# Altium footprint library SOIC.PcbLib: 11 footprints
Each footprint in its own frame and in the unit in brackets; x right, y up, seen from the top. Pads: shape width x height; smd on the part's side, far side on the other; paste and mask are expansions set on the pad; w line width, h text height; cw(c..) or ccw(c..) is an arc to the next point about the centre after c.
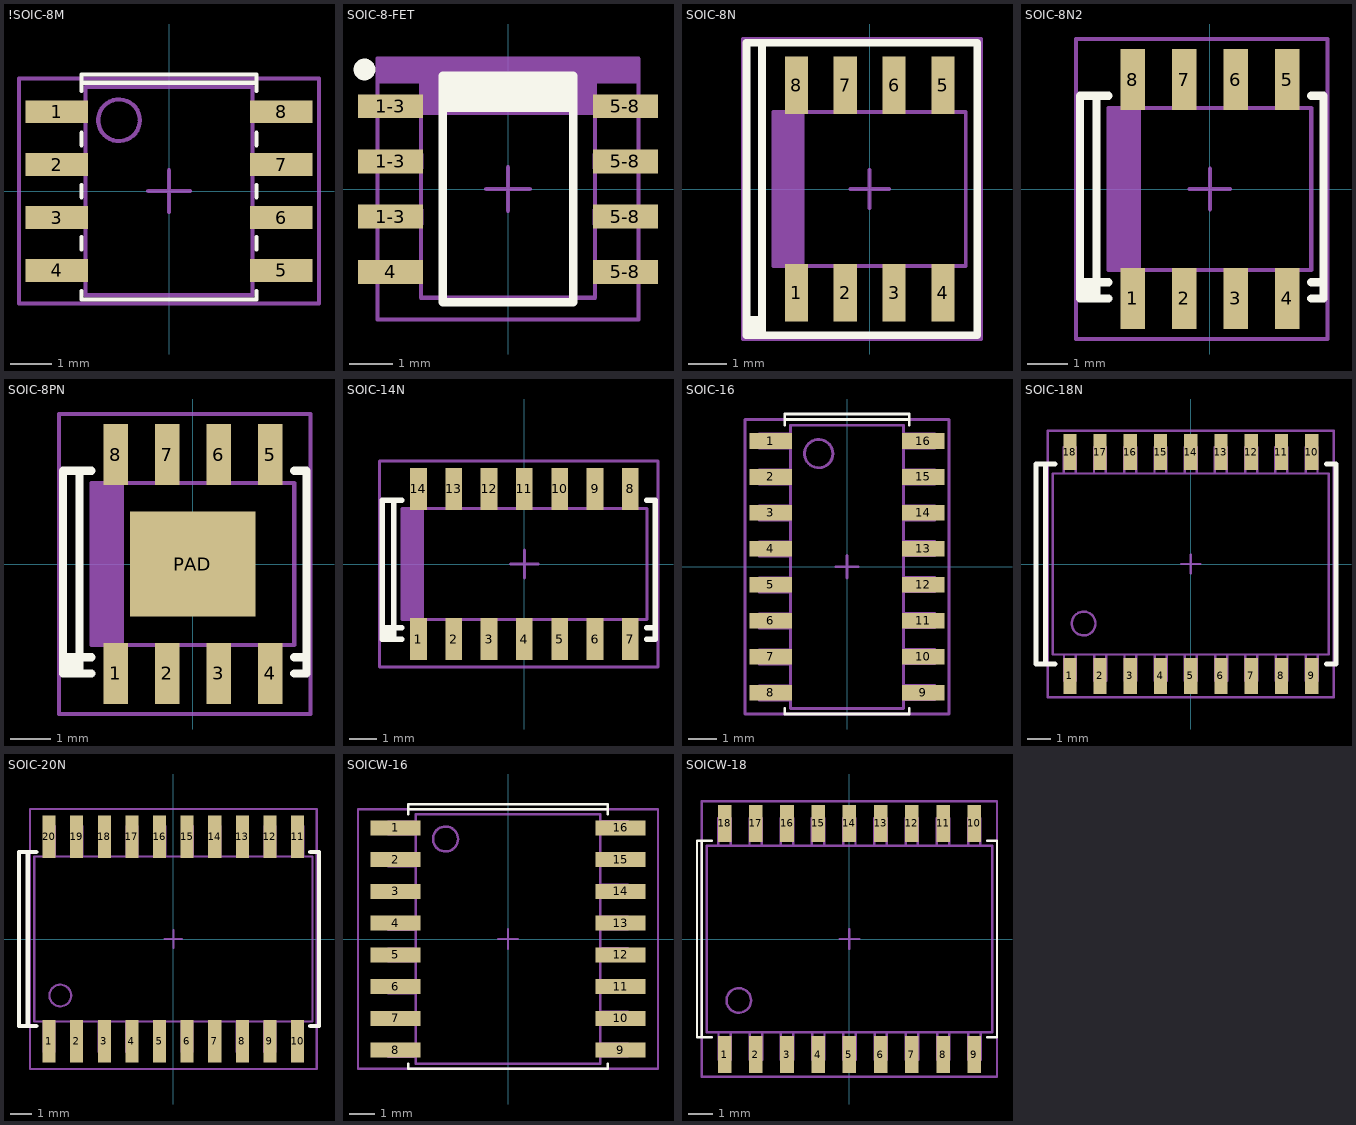
[diagram p0: the footprints below, top view; thin cyan lines are the x and y axes]

## !SOIC-8M [mm] "8-SOIC"
height 2
pads (8):
  rect 1.5x0.55 smd: 1(-2.7,1.905) 2(-2.7,0.635) 3(-2.7,-0.635) 4(-2.7,-1.905) 5(2.7,-1.905) 6(2.7,-0.635) 7(2.7,0.635) 8(2.7,1.905)
Top Overlay:
  lines w0.1: -2.1,-2.4 -2.1,-2.6 2.1,-2.6 2.1,-2.4 ; -2.1,-1.4 -2.1,-1.1 ; -2.1,-0.15 -2.1,0.15 ; -2.1,1.1 -2.1,1.4 ; -2.1,2.4 -2.1,2.8 2.1,2.8 2.1,2.4 ; -2.1,2.6 2.1,2.6 ; 2.1,-1.4 2.1,-1.1 ; 2.1,-0.15 2.1,0.15 ; 2.1,1.1 2.1,1.4
Top Package:
  circle w0.1: c-1.2,1.7 r0.5
  lines w0.1: -0.5,0 0.5,0 ; 0,-0.5 0,0.5 ; -3.002,-2.074 -2.002,-2.074 -2.002,-1.749 -3.002,-1.749 -3.002,-2.074 ; -3,1.75 -3,2.075 -2,2.075 -2,1.75 -3,1.75 ; -2.998,-0.804 -2.998,-0.479 -1.998,-0.479 -1.998,-0.804 -2.998,-0.804 ; -2.998,0.479 -1.998,0.479 -1.998,0.804 -2.998,0.804 -2.998,0.479 ; -2,-2.5 2,-2.5 2,2.5 -2,2.5 -2,-2.5 ; 1.998,-0.804 1.998,-0.479 2.998,-0.479 2.998,-0.804 1.998,-0.804 ; 1.998,0.479 2.998,0.479 2.998,0.804 1.998,0.804 1.998,0.479 ; 2,-2.075 3,-2.075 3,-1.75 2,-1.75 2,-2.075 ; 2,1.75 3,1.75 3,2.075 2,2.075 2,1.75
Top Comment:
  text ".Comment" at -0.636,2.835 h2
Top Designator:
  text ".Designator" at -0.568,4.299 h2.5
Top Border:
  lines w0.1: -0.5,0 0.5,0 ; 0,-0.5 0,0.5 ; -3.6,-2.7 3.6,-2.7 3.6,2.7 -3.6,2.7 -3.6,-2.7
3D body "User Library-SOIC-8-1.step": height 1.75, standoff 0, extent -3,-2.45 3,2.45

## SOIC-8-FET [mm]
height 1.75
pads (8):
  rect 1.5x0.55 smd: 1-3(-2.7,-0.635) 1-3(-2.7,0.635) 1-3(-2.7,1.905) 4(-2.7,-1.905) 5-8(2.7,-1.905) 5-8(2.7,-0.635) 5-8(2.7,0.635) 5-8(2.7,1.905)
Top Overlay:
  circle w0.25: c-3.3,2.75 r0.125
  rectangle: -1.5,1.775 1.5,2.6
  lines w0.2: -1.5,-2.6 -1.5,2.6 1.5,2.6 1.5,-2.6 -1.5,-2.6
Top Package:
  rectangle: -2,1.7 2,2.456
  lines w0.1: -0.5,0 0.5,0 ; 0,-0.5 0,0.5 ; -3.002,-2.074 -2.002,-2.074 -2.002,-1.749 -3.002,-1.749 -3.002,-2.074 ; -3,1.75 -3,2.075 -2,2.075 -2,1.75 -3,1.75 ; -2.998,-0.804 -2.998,-0.479 -1.998,-0.479 -1.998,-0.804 -2.998,-0.804 ; -2.998,0.479 -1.998,0.479 -1.998,0.804 -2.998,0.804 -2.998,0.479 ; -2,-2.5 2,-2.5 2,2.5 -2,2.5 -2,-2.5 ; 1.998,-0.804 1.998,-0.479 2.998,-0.479 2.998,-0.804 1.998,-0.804 ; 1.998,0.479 2.998,0.479 2.998,0.804 1.998,0.804 1.998,0.479 ; 2,-2.075 3,-2.075 3,-1.75 2,-1.75 2,-2.075 ; 2,1.75 3,1.75 3,2.075 2,2.075 2,1.75
Top Border:
  rectangle: -3,2.425 3,2.997
  lines w0.1: -3,3.003 -3,-3 3,-3 3,2.32 3,3 -2.997,3 ; -0.5,0 0.5,0 ; 0,-0.5 0,0.5
3D body "User Library-SOIC-8-1.step": height 1.75, standoff 0, extent -3.002,-2.449 2.998,2.451

## SOIC-8N [mm]
height 1.75
pads (8):
  rect 0.6x1.5 smd: 1(-1.905,-2.7) 2(-0.635,-2.7) 3(0.635,-2.7) 4(1.905,-2.7) 5(1.905,2.7) 6(0.635,2.7) 7(-0.635,2.7) 8(-1.905,2.7)
Top Overlay:
  rectangle: -3.2,-3.8 -2.8,-3.4
  lines w0.2: -3.2,-3.8 -3.2,3.8 -2.8,3.8 ; -3.2,-3.8 -3.2,-3.4 -2.8,-3.4 -2.8,-3.8 ; -3.2,-3.8 -2.8,-3.8 ; -2.8,-3.8 2.8,-3.8 2.8,3.8 -2.8,3.8 ; -2.8,-3.8 -2.8,3.8
Top Package:
  region: -1.7,-2 -1.7,2 -2.456,2 -2.456,-2
  lines w0.1: -2.5,-2 2.5,-2 2.5,2 -2.5,2 -2.5,-2 ; -2.075,-3 -2.075,-2 -1.75,-2 -1.75,-3 -2.075,-3 ; -2.075,2 -1.75,2 -1.75,3 -2.075,3 -2.075,2 ; -0.804,-2.998 -0.479,-2.998 -0.479,-1.998 -0.804,-1.998 -0.804,-2.998 ; -0.804,1.998 -0.479,1.998 -0.479,2.998 -0.804,2.998 -0.804,1.998 ; 0.479,-2.998 0.479,-1.998 0.804,-1.998 0.804,-2.998 0.479,-2.998 ; 0.479,1.998 0.479,2.998 0.804,2.998 0.804,1.998 0.479,1.998 ; 1.749,-3.002 2.074,-3.002 2.074,-2.002 1.749,-2.002 1.749,-3.002 ; 1.75,2 2.075,2 2.075,3 1.75,3 1.75,2
Top Border:
  lines w0.1: -0.5,0 0.5,0 ; 0,-0.5 0,0.5 ; -3.3,-3.9 2.9,-3.9 2.9,3.9 -3.3,3.9 -3.3,-3.9
3D body "User Library-SOIC-8-1.step": height 1.75, standoff 0, extent -2.451,-3.002 2.449,2.998

## SOIC-8N2 [mm]
height 1.75
pads (8):
  rect 0.6x1.5 smd: 1(-1.905,-2.7) 2(-0.635,-2.7) 3(0.635,-2.7) 4(1.905,-2.7) 5(1.905,2.7) 6(0.635,2.7) 7(-0.635,2.7) 8(-1.905,2.7)
Top Overlay:
  rectangle: -3.2,-2.7 -2.8,-2.3
  lines w0.2: -2.5,-2.7 -2.8,-2.7 ; -2.5,-2.3 -2.8,-2.3 ; -2.5,2.3 -2.8,2.3 ; 2.5,-2.7 2.8,-2.7 2.8,-2.3 ; 2.5,-2.3 2.8,-2.3 ; 2.5,2.3 2.8,2.3 2.8,-2.3 ; -3.2,-2.3 -3.2,2.3 -2.8,2.3 ; -3.2,-2.3 -2.8,-2.3 ; -3.2,-2.3 -3.2,-2.7 -2.8,-2.7 ; -2.8,-2.7 -2.8,-2.3 ; -2.8,-2.3 -2.8,2.3
Top Package:
  region: -1.7,-2 -1.7,2 -2.456,2 -2.456,-2
  lines w0.1: -2.5,-2 -2.5,2 2.5,2 2.5,-2 -2.5,-2 ; -2.075,-3 -1.75,-3 -1.75,-2 -2.075,-2 -2.075,-3 ; -2.075,2 -2.075,3 -1.75,3 -1.75,2 -2.075,2 ; -0.804,-2.998 -0.804,-1.998 -0.479,-1.998 -0.479,-2.998 -0.804,-2.998 ; -0.804,1.998 -0.804,2.998 -0.479,2.998 -0.479,1.998 -0.804,1.998 ; 0.479,-2.998 0.804,-2.998 0.804,-1.998 0.479,-1.998 0.479,-2.998 ; 0.479,1.998 0.804,1.998 0.804,2.998 0.479,2.998 0.479,1.998 ; 1.749,-3.002 1.749,-2.002 2.074,-2.002 2.074,-3.002 1.749,-3.002 ; 1.75,2 1.75,3 2.075,3 2.075,2 1.75,2
Top Border:
  lines w0.1: -0.5,0 0.5,0 ; 0,-0.5 0,0.5 ; -3.3,-3.7 -3.3,3.7 2.9,3.7 2.9,-3.7 -3.3,-3.7
3D body "User Library-SOIC-8-1.step": height 1.75, standoff 0, extent -2.451,-3.002 2.449,2.998

## SOIC-8PN [mm]
height 1.75
pads (9):
  rect 0.6x1.5 smd: 1(-1.905,-2.7) 2(-0.635,-2.7) 3(0.635,-2.7) 4(1.905,-2.7) 5(1.905,2.7) 6(0.635,2.7) 7(-0.635,2.7) 8(-1.905,2.7)
  rect 3.1x2.6 smd: PAD(0,0)
Top Overlay:
  rectangle: -3.2,-2.7 -2.8,-2.3
  lines w0.2: -2.5,-2.7 -2.8,-2.7 ; -2.5,-2.3 -2.8,-2.3 ; -2.5,2.3 -2.8,2.3 ; 2.5,-2.7 2.8,-2.7 2.8,-2.3 ; 2.5,-2.3 2.8,-2.3 ; 2.5,2.3 2.8,2.3 2.8,-2.3 ; -3.2,-2.3 -3.2,-2.7 -2.8,-2.7 ; -3.2,-2.3 -2.8,-2.3 ; -3.2,-2.3 -3.2,2.3 -2.8,2.3 ; -2.8,-2.7 -2.8,-2.3 ; -2.8,-2.3 -2.8,2.3
Top Package:
  region: -1.7,-2 -1.7,2 -2.456,2 -2.456,-2
  lines w0.1: -2.5,-2 2.5,-2 2.5,2 -2.5,2 -2.5,-2 ; -2.075,-3 -2.075,-2 -1.75,-2 -1.75,-3 -2.075,-3 ; -2.075,2 -1.75,2 -1.75,3 -2.075,3 -2.075,2 ; -0.804,-2.998 -0.479,-2.998 -0.479,-1.998 -0.804,-1.998 -0.804,-2.998 ; -0.804,1.998 -0.479,1.998 -0.479,2.998 -0.804,2.998 -0.804,1.998 ; 0.479,-2.998 0.479,-1.998 0.804,-1.998 0.804,-2.998 0.479,-2.998 ; 0.479,1.998 0.479,2.998 0.804,2.998 0.804,1.998 0.479,1.998 ; 1.749,-3.002 2.074,-3.002 2.074,-2.002 1.749,-2.002 1.749,-3.002 ; 1.75,2 2.075,2 2.075,3 1.75,3 1.75,2
Top Border:
  lines w0.1: -0.5,0 0.5,0 ; 0,-0.5 0,0.5 ; -3.3,-3.7 2.9,-3.7 2.9,3.7 -3.3,3.7 -3.3,-3.7
3D body "User Library-SOIC-8-1.step": height 1.75, standoff 0, extent -2.451,-3.002 2.449,2.998

## SOIC-14N [mm]
height 1.75
pads (14):
  rect 0.6x1.5 smd: 1(-3.81,-2.7) 2(-2.54,-2.7) 3(-1.27,-2.7) 4(0,-2.7) 5(1.27,-2.7) 6(2.54,-2.7) 7(3.81,-2.7) 8(3.81,2.7) 9(2.54,2.7) 10(1.27,2.7) 11(0,2.7) 12(-1.27,2.7) 13(-2.54,2.7) 14(-3.81,2.7)
Top Overlay:
  rectangle: -5.105,-2.7 -4.705,-2.3
  lines w0.2: -4.405,-2.7 -4.705,-2.7 ; -4.405,-2.3 -4.705,-2.3 ; -4.405,2.3 -4.705,2.3 ; 4.405,-2.7 4.705,-2.7 4.705,-2.3 ; 4.405,-2.3 4.705,-2.3 ; 4.405,2.3 4.705,2.3 4.705,-2.3 ; -5.105,-2.3 -5.105,-2.7 -4.705,-2.7 ; -5.105,-2.3 -4.705,-2.3 ; -5.105,-2.3 -5.105,2.3 -4.705,2.3 ; -4.705,-2.7 -4.705,-2.3 ; -4.705,-2.3 -4.705,2.3
Top Package:
  region: -3.605,-2 -3.605,2 -4.361,2 -4.361,-2
  lines w0.1: 4.4,-2 -4.405,-2 -4.405,2 4.4,2 ; 4.405,-2 4.405,2 ; -3.98,-3 -3.98,-2 -3.655,-2 -3.655,-3 -3.98,-3 ; -3.98,2 -3.655,2 -3.655,3 -3.98,3 -3.98,2 ; -2.709,-2.998 -2.384,-2.998 -2.384,-1.998 -2.709,-1.998 -2.709,-2.998 ; -2.709,1.998 -2.384,1.998 -2.384,2.998 -2.709,2.998 -2.709,1.998 ; -1.426,-2.998 -1.426,-1.998 -1.101,-1.998 -1.101,-2.998 -1.426,-2.998 ; -1.426,1.998 -1.426,2.998 -1.101,2.998 -1.101,1.998 -1.426,1.998 ; -0.156,-3.002 0.169,-3.002 0.169,-2.002 -0.156,-2.002 -0.156,-3.002 ; -0.155,2 0.17,2 0.17,3 -0.155,3 -0.155,2 ; 1.114,-3.002 1.114,-2.002 1.439,-2.002 1.439,-3.002 1.114,-3.002 ; 1.115,2 1.115,3 1.44,3 1.44,2 1.115,2 ; 2.384,-3.002 2.384,-2.002 2.709,-2.002 2.709,-3.002 2.384,-3.002 ; 2.385,2 2.385,3 2.71,3 2.71,2 2.385,2 ; 3.654,-3.002 3.654,-2.002 3.979,-2.002 3.979,-3.002 3.654,-3.002 ; 3.655,2 3.655,3 3.98,3 3.98,2 3.655,2
Top Border:
  lines w0.1: -0.5,0 0.5,0 ; 0,-0.5 0,0.5 ; 4.8,-3.7 -5.205,-3.7 -5.205,3.7 4.8,3.7 ; 4.805,-3.7 4.805,3.7
3D body "User Library-so14-1.step": height 1.7, standoff 0, extent -4.401,-3.002 4.399,2.998

## SOIC-16 [mm] "3.90mm"
height 1.75
pads (16):
  rect 1.5x0.55 smd: 1(-2.7,4.445) 2(-2.7,3.175) 3(-2.7,1.905) 4(-2.7,0.635) 5(-2.7,-0.635) 6(-2.7,-1.905) 7(-2.7,-3.175) 8(-2.7,-4.445) 9(2.7,-4.445) 10(2.7,-3.175) 11(2.7,-1.905) 12(2.7,-0.635) 13(2.7,0.635) 14(2.7,1.905) 15(2.7,3.175) 16(2.7,4.445)
Top Overlay:
  lines w0.1: -2.2,-5 -2.2,-5.2 2.2,-5.2 2.2,-5 ; -2.2,5 -2.2,5.4 2.2,5.4 2.2,5 ; -2.2,5.2 2.2,5.2
Top Package:
  circle w0.1: c-1,4 r0.5
  lines w0.1: -2.55,-4.7 -2.55,-4.2 ; -2.55,-3.43 -2.55,-2.93 ; -2.55,-2.16 -2.55,-1.66 ; -2.55,-0.89 -2.55,-0.39 ; -2.55,0.38 -2.55,0.88 ; -2.55,1.65 -2.55,2.15 ; -2.55,2.92 -2.55,3.42 ; -2.55,4.19 -2.55,4.69 ; -2,-4.7 -3.1,-4.7 -3.1,-4.2 -2,-4.2 ; -2,-3.43 -3.1,-3.43 -3.1,-2.93 -2,-2.93 ; -2,-2.16 -3.1,-2.16 -3.1,-1.66 -2,-1.66 ; -2,-0.89 -3.1,-0.89 -3.1,-0.39 -2,-0.39 ; -2,0.38 -3.1,0.38 -3.1,0.88 -2,0.88 ; -2,1.65 -3.1,1.65 -3.1,2.15 -2,2.15 ; -2,2.92 -3.1,2.92 -3.1,3.42 -2,3.42 ; -2,4.19 -3.1,4.19 -3.1,4.69 -2,4.69 ; 2,-4.69 3.1,-4.69 3.1,-4.19 2,-4.19 ; 2,-3.42 3.1,-3.42 3.1,-2.92 2,-2.92 ; 2,-2.15 3.1,-2.15 3.1,-1.65 2,-1.65 ; 2,-0.88 3.1,-0.88 3.1,-0.38 2,-0.38 ; 2,0.39 3.1,0.39 3.1,0.89 2,0.89 ; 2,1.66 3.1,1.66 3.1,2.16 2,2.16 ; 2,2.93 3.1,2.93 3.1,3.43 2,3.43 ; 2,4.2 3.1,4.2 3.1,4.7 2,4.7 ; 2.55,-4.69 2.55,-4.19 ; 2.55,-3.42 2.55,-2.92 ; 2.55,-2.15 2.55,-1.65 ; 2.55,-0.88 2.55,-0.38 ; 2.55,0.39 2.55,0.89 ; 2.55,1.66 2.55,2.16 ; 2.55,2.93 2.55,3.43 ; 2.55,4.2 2.55,4.7 ; -2,-5 -2,5 2,5 2,-5 -2,-5
Top Border:
  lines w0.1: -0.4,0 0.4,0 ; 0,-0.4 0,0.4 ; -3.6,-5.2 3.6,-5.2 3.6,5.2 -3.6,5.2 -3.6,-5.2
3D body "SOIC-16 (3.9).step": height 1.4, standoff 0, extent -3,-4.95 3,4.95

## SOIC-18N [mm]
height 2.65
pads (18):
  rect 0.55x1.5 smd: 1(-5.08,-4.7) 2(-3.81,-4.7) 3(-2.54,-4.7) 4(-1.27,-4.7) 5(0,-4.7) 6(1.27,-4.7) 7(2.54,-4.7) 8(3.81,-4.7) 9(5.08,-4.7) 10(5.08,4.7) 11(3.81,4.7) 12(2.54,4.7) 13(1.27,4.7) 14(0,4.7) 15(-1.27,4.7) 16(-2.54,4.7) 17(-3.81,4.7) 18(-5.08,4.7)
Top Overlay:
  lines w0.2: -6.1,-4.2 -6.1,4.2 ; -5.7,-4.2 -6.5,-4.2 -6.5,4.2 -5.7,4.2 ; 5.7,-4.2 6.1,-4.2 6.1,4.2 5.7,4.2
Top Designator:
  circle w0.1: c-4.5,-2.5 r0.5
  lines w0.1: -5.335,3.805 -5.335,4.905 -4.835,4.905 -4.835,3.805 ; -5.335,4.355 -4.835,4.355 ; -5.325,-4.355 -4.825,-4.355 ; -5.325,-3.805 -5.325,-4.905 -4.825,-4.905 -4.825,-3.805 ; -4.065,3.805 -4.065,4.905 -3.565,4.905 -3.565,3.805 ; -4.065,4.355 -3.565,4.355 ; -4.055,-4.355 -3.555,-4.355 ; -4.055,-3.805 -4.055,-4.905 -3.555,-4.905 -3.555,-3.805 ; -2.795,3.805 -2.795,4.905 -2.295,4.905 -2.295,3.805 ; -2.795,4.355 -2.295,4.355 ; -2.785,-4.355 -2.285,-4.355 ; -2.785,-3.805 -2.785,-4.905 -2.285,-4.905 -2.285,-3.805 ; -1.525,3.805 -1.525,4.905 -1.025,4.905 -1.025,3.805 ; -1.525,4.355 -1.025,4.355 ; -1.515,-4.355 -1.015,-4.355 ; -1.515,-3.805 -1.515,-4.905 -1.015,-4.905 -1.015,-3.805 ; -0.255,3.805 -0.255,4.905 0.245,4.905 0.245,3.805 ; -0.255,4.355 0.245,4.355 ; -0.245,-4.355 0.255,-4.355 ; -0.245,-3.805 -0.245,-4.905 0.255,-4.905 0.255,-3.805 ; 1.015,3.805 1.015,4.905 1.515,4.905 1.515,3.805 ; 1.015,4.355 1.515,4.355 ; 1.025,-4.355 1.525,-4.355 ; 1.025,-3.805 1.025,-4.905 1.525,-4.905 1.525,-3.805 ; 2.285,3.805 2.285,4.905 2.785,4.905 2.785,3.805 ; 2.285,4.355 2.785,4.355 ; 2.295,-4.355 2.795,-4.355 ; 2.295,-3.805 2.295,-4.905 2.795,-4.905 2.795,-3.805 ; 3.555,3.805 3.555,4.905 4.055,4.905 4.055,3.805 ; 3.555,4.355 4.055,4.355 ; 3.565,-4.355 4.065,-4.355 ; 3.565,-3.805 3.565,-4.905 4.065,-4.905 4.065,-3.805 ; 4.825,3.805 4.825,4.905 5.325,4.905 5.325,3.805 ; 4.825,4.355 5.325,4.355 ; 4.835,-4.355 5.335,-4.355 ; 4.835,-3.805 4.835,-4.905 5.335,-4.905 5.335,-3.805 ; -5.8,-3.8 5.8,-3.8 5.8,3.8 -5.8,3.8 -5.8,-3.8
Top Border:
  lines w0.1: -0.4,0 0.4,0 ; 0,-0.4 0,0.4 ; -6,-5.6 -6,5.6 6,5.6 6,-5.6 -6,-5.6
3D body "SOIC-18 (7.5).step": height 2.65, standoff 0, extent -5.765,-5.15 5.765,5.15

## SOIC-20N [mm] "SOIC, 20-Leads, Body 7.5x12.8mm, Pitch 1.27mm, IPC Medium Density"
height 2.65
pads (20):
  rect 0.6x1.95 smd: 1(-5.715,-4.7) 2(-4.445,-4.7) 3(-3.175,-4.7) 4(-1.905,-4.7) 5(-0.635,-4.7) 6(0.635,-4.7) 7(1.905,-4.7) 8(3.175,-4.7) 9(4.445,-4.7) 10(5.715,-4.7) 11(5.715,4.7) 12(4.445,4.7) 13(3.175,4.7) 14(1.905,4.7) 15(0.635,4.7) 16(-0.635,4.7) 17(-1.905,4.7) 18(-3.175,4.7) 19(-4.445,4.7) 20(-5.715,4.7)
Top Overlay:
  lines w0.2: -6.7,-4 -6.7,4 ; -6.3,-4 -7.1,-4 -7.1,4 -6.3,4 ; 6.3,-4 6.7,-4 6.7,4 6.3,4
Top Package:
  circle w0.1: c-5.2,-2.6 r0.5
  lines w0.1: -5.975,-4.5 -5.475,-4.5 ; -5.975,-3.8 -5.975,-5.2 -5.475,-5.2 -5.475,-3.8 ; -5.955,3.8 -5.955,5.2 -5.455,5.2 -5.455,3.8 ; -5.955,4.5 -5.455,4.5 ; -4.705,-4.5 -4.205,-4.5 ; -4.705,-3.8 -4.705,-5.2 -4.205,-5.2 -4.205,-3.8 ; -4.685,3.8 -4.685,5.2 -4.185,5.2 -4.185,3.8 ; -4.685,4.5 -4.185,4.5 ; -3.435,-4.5 -2.935,-4.5 ; -3.435,-3.8 -3.435,-5.2 -2.935,-5.2 -2.935,-3.8 ; -3.415,3.8 -3.415,5.2 -2.915,5.2 -2.915,3.8 ; -3.415,4.5 -2.915,4.5 ; -2.165,-4.5 -1.665,-4.5 ; -2.165,-3.8 -2.165,-5.2 -1.665,-5.2 -1.665,-3.8 ; -2.145,3.8 -2.145,5.2 -1.645,5.2 -1.645,3.8 ; -2.145,4.5 -1.645,4.5 ; -0.895,-4.5 -0.395,-4.5 ; -0.895,-3.8 -0.895,-5.2 -0.395,-5.2 -0.395,-3.8 ; -0.875,3.8 -0.875,5.2 -0.375,5.2 -0.375,3.8 ; -0.875,4.5 -0.375,4.5 ; 0.375,-4.5 0.875,-4.5 ; 0.375,-3.8 0.375,-5.2 0.875,-5.2 0.875,-3.8 ; 0.395,3.8 0.395,5.2 0.895,5.2 0.895,3.8 ; 0.395,4.5 0.895,4.5 ; 1.645,-4.5 2.145,-4.5 ; 1.645,-3.8 1.645,-5.2 2.145,-5.2 2.145,-3.8 ; 1.665,3.8 1.665,5.2 2.165,5.2 2.165,3.8 ; 1.665,4.5 2.165,4.5 ; 2.915,-4.5 3.415,-4.5 ; 2.915,-3.8 2.915,-5.2 3.415,-5.2 3.415,-3.8 ; 2.935,3.8 2.935,5.2 3.435,5.2 3.435,3.8 ; 2.935,4.5 3.435,4.5 ; 4.185,-4.5 4.685,-4.5 ; 4.185,-3.8 4.185,-5.2 4.685,-5.2 4.685,-3.8 ; 4.205,3.8 4.205,5.2 4.705,5.2 4.705,3.8 ; 4.205,4.5 4.705,4.5 ; 5.455,-4.5 5.955,-4.5 ; 5.455,-3.8 5.455,-5.2 5.955,-5.2 5.955,-3.8 ; 5.475,3.8 5.475,5.2 5.975,5.2 5.975,3.8 ; 5.475,4.5 5.975,4.5 ; -6.4,-3.8 6.4,-3.8 6.4,3.8 -6.4,3.8 -6.4,-3.8
Top Border:
  lines w0.1: -0.4,0 0.4,0 ; 0,-0.4 0,0.4 ; -6.6,-5.975 -6.6,5.975 6.6,5.975 6.6,-5.975 -6.6,-5.975
3D body "SOIC20.step": height 2.2, standoff -0.04, extent -6.3,-5.067 6.3,5.067

## SOICW-16 [mm] "7.50mm"
height 2
pads (16):
  rect 2x0.6 smd: 1(-4.5,4.445) 2(-4.5,3.175) 3(-4.5,1.905) 4(-4.5,0.635) 5(-4.5,-0.635) 6(-4.5,-1.905) 7(-4.5,-3.175) 8(-4.5,-4.445) 9(4.5,-4.445) 10(4.5,-3.175) 11(4.5,-1.905) 12(4.5,-0.635) 13(4.5,0.635) 14(4.5,1.905) 15(4.5,3.175) 16(4.5,4.445)
Top Overlay:
  lines w0.1: -4,-5 -4,-5.2 4,-5.2 4,-5 ; -4,5 -4,5.4 4,5.4 4,5 ; -4,5.2 4,5.2
Top Package:
  circle w0.1: c-2.5,4 r0.5
  lines w0.1: -4.25,-4.7 -4.25,-4.2 ; -4.25,-3.43 -4.25,-2.93 ; -4.25,-2.16 -4.25,-1.66 ; -4.25,-0.89 -4.25,-0.39 ; -4.25,0.38 -4.25,0.88 ; -4.25,1.65 -4.25,2.15 ; -4.25,2.92 -4.25,3.42 ; -4.25,4.19 -4.25,4.69 ; -3.7,-4.7 -4.8,-4.7 -4.8,-4.2 -3.7,-4.2 ; -3.7,-3.43 -4.8,-3.43 -4.8,-2.93 -3.7,-2.93 ; -3.7,-2.16 -4.8,-2.16 -4.8,-1.66 -3.7,-1.66 ; -3.7,-0.89 -4.8,-0.89 -4.8,-0.39 -3.7,-0.39 ; -3.7,0.38 -4.8,0.38 -4.8,0.88 -3.7,0.88 ; -3.7,1.65 -4.8,1.65 -4.8,2.15 -3.7,2.15 ; -3.7,2.92 -4.8,2.92 -4.8,3.42 -3.7,3.42 ; -3.7,4.19 -4.8,4.19 -4.8,4.69 -3.7,4.69 ; 3.7,-4.69 4.8,-4.69 4.8,-4.19 3.7,-4.19 ; 3.7,-3.42 4.8,-3.42 4.8,-2.92 3.7,-2.92 ; 3.7,-2.15 4.8,-2.15 4.8,-1.65 3.7,-1.65 ; 3.7,-0.88 4.8,-0.88 4.8,-0.38 3.7,-0.38 ; 3.7,0.39 4.8,0.39 4.8,0.89 3.7,0.89 ; 3.7,1.66 4.8,1.66 4.8,2.16 3.7,2.16 ; 3.7,2.93 4.8,2.93 4.8,3.43 3.7,3.43 ; 3.7,4.2 4.8,4.2 4.8,4.7 3.7,4.7 ; 4.25,-4.69 4.25,-4.19 ; 4.25,-3.42 4.25,-2.92 ; 4.25,-2.15 4.25,-1.65 ; 4.25,-0.88 4.25,-0.38 ; 4.25,0.39 4.25,0.89 ; 4.25,1.66 4.25,2.16 ; 4.25,2.93 4.25,3.43 ; 4.25,4.2 4.25,4.7 ; -3.7,-5 3.7,-5 3.7,5 -3.7,5 -3.7,-5
Top Border:
  lines w0.1: -0.4,0 0.4,0 ; 0,-0.4 0,0.4 ; -6,-5.2 -6,5.2 6,5.2 6,-5.2 -6,-5.2
3D body "User Library-SOIC16_Wide_JEDEC_MS-013AA.step": height 2.62, standoff -0.03, extent -5.315,-5.25 5.315,5.25
3D body "SOIC-16 (3.9).step": height 1.4, standoff 0, extent -3,-4.95 3,4.95

## SOICW-18 [mm] "7.50mm"
height 2.65
pads (18):
  rect 0.55x1.5 smd: 1(-5.08,-4.7) 2(-3.81,-4.7) 3(-2.54,-4.7) 4(-1.27,-4.7) 5(0,-4.7) 6(1.27,-4.7) 7(2.54,-4.7) 8(3.81,-4.7) 9(5.08,-4.7) 10(5.08,4.7) 11(3.81,4.7) 12(2.54,4.7) 13(1.27,4.7) 14(0,4.7) 15(-1.27,4.7) 16(-2.54,4.7) 17(-3.81,4.7) 18(-5.08,4.7)
Top Overlay:
  lines w0.1: -6,-4 -6,4 ; -5.6,-4 -6.2,-4 -6.2,4 -5.6,4 ; 5.6,-4 6,-4 6,4 5.6,4
Top Package:
  circle w0.1: c-4.5,-2.5 r0.5
  lines w0.1: -5.335,3.805 -5.335,4.905 -4.835,4.905 -4.835,3.805 ; -5.335,4.355 -4.835,4.355 ; -5.325,-4.355 -4.825,-4.355 ; -5.325,-3.805 -5.325,-4.905 -4.825,-4.905 -4.825,-3.805 ; -4.065,3.805 -4.065,4.905 -3.565,4.905 -3.565,3.805 ; -4.065,4.355 -3.565,4.355 ; -4.055,-4.355 -3.555,-4.355 ; -4.055,-3.805 -4.055,-4.905 -3.555,-4.905 -3.555,-3.805 ; -2.795,3.805 -2.795,4.905 -2.295,4.905 -2.295,3.805 ; -2.795,4.355 -2.295,4.355 ; -2.785,-4.355 -2.285,-4.355 ; -2.785,-3.805 -2.785,-4.905 -2.285,-4.905 -2.285,-3.805 ; -1.525,3.805 -1.525,4.905 -1.025,4.905 -1.025,3.805 ; -1.525,4.355 -1.025,4.355 ; -1.515,-4.355 -1.015,-4.355 ; -1.515,-3.805 -1.515,-4.905 -1.015,-4.905 -1.015,-3.805 ; -0.255,3.805 -0.255,4.905 0.245,4.905 0.245,3.805 ; -0.255,4.355 0.245,4.355 ; -0.245,-4.355 0.255,-4.355 ; -0.245,-3.805 -0.245,-4.905 0.255,-4.905 0.255,-3.805 ; 1.015,3.805 1.015,4.905 1.515,4.905 1.515,3.805 ; 1.015,4.355 1.515,4.355 ; 1.025,-4.355 1.525,-4.355 ; 1.025,-3.805 1.025,-4.905 1.525,-4.905 1.525,-3.805 ; 2.285,3.805 2.285,4.905 2.785,4.905 2.785,3.805 ; 2.285,4.355 2.785,4.355 ; 2.295,-4.355 2.795,-4.355 ; 2.295,-3.805 2.295,-4.905 2.795,-4.905 2.795,-3.805 ; 3.555,3.805 3.555,4.905 4.055,4.905 4.055,3.805 ; 3.555,4.355 4.055,4.355 ; 3.565,-4.355 4.065,-4.355 ; 3.565,-3.805 3.565,-4.905 4.065,-4.905 4.065,-3.805 ; 4.825,3.805 4.825,4.905 5.325,4.905 5.325,3.805 ; 4.825,4.355 5.325,4.355 ; 4.835,-4.355 5.335,-4.355 ; 4.835,-3.805 4.835,-4.905 5.335,-4.905 5.335,-3.805 ; -5.8,-3.8 -5.8,3.8 5.8,3.8 5.8,-3.8 -5.8,-3.8
Top Border:
  lines w0.1: -0.4,0 0.4,0 ; 0,-0.4 0,0.4 ; -6,-5.6 6,-5.6 6,5.6 -6,5.6 -6,-5.6
3D body "SOIC-18 (7.5).step": height 2.65, standoff 0, extent -5.765,-5.15 5.765,5.15